# EAGLE library part WINC3400-MR210 (library atmel-smartconnect)
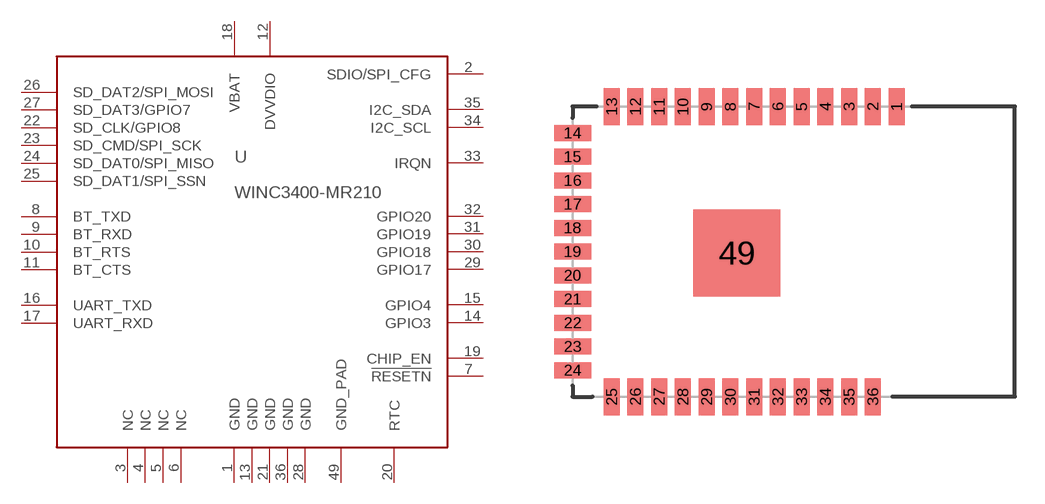
[diagram p2: symbol with the pads of WINC3400-MR210; footprint WINC3400-MR210]

Designator prefix -

## WINC3400-MR210  [WINC3400-MR210]
1  GND  pwr
2  SDIO/SPI_CFG  in
3  NC  nc
4  NC  nc
5  NC  nc
6  NC  nc
7  !RESETN  in
8  BT_TXD
9  BT_RXD
10  BT_RTS
11  BT_CTS
12  DVVDIO  pwr
13  GND  pwr
14  GPIO3
15  GPIO4
16  UART_TXD
17  UART_RXD
18  VBAT  pwr
19  CHIP_EN
20  RTC
21  GND  pwr
22  SD_CLK/GPIO8
23  SD_CMD/SPI_SCK
24  SD_DAT0/SPI_MISO
25  SD_DAT1/SPI_SSN
26  SD_DAT2/SPI_MOSI
27  SD_DAT3/GPIO7
28  GND  pwr
29  GPIO17
30  GPIO18
31  GPIO19
32  GPIO20
33  IRQN
34  I2C_SCL
35  I2C_SDA
36  GND  pwr
49  GND_PAD  pwr

## Footprint WINC3400-MR210 (pad centres in mm)
smd 0.813 x 1.88: 1 7.758,7.366; 2 6.554,7.366; 3 5.35,7.366; 4 4.146,7.366; 5 2.942,7.366; 6 1.738,7.366; 7 0.534,7.366; 8 -0.67,7.366; 9 -1.874,7.366; 10 -3.078,7.366; 11 -4.282,7.366; 12 -5.486,7.366; 13 -6.69,7.366; 25 -6.69,-7.366; 26 -5.486,-7.366; 27 -4.282,-7.366; 28 -3.078,-7.366; 29 -1.874,-7.366; 30 -0.67,-7.366; 31 0.534,-7.366; 32 1.738,-7.366; 33 2.942,-7.366; 34 4.146,-7.366; 35 5.35,-7.366; 36 6.554,-7.366
smd 1.88 x 0.813: 14 -8.674,6.02; 15 -8.674,4.816; 16 -8.674,3.612; 17 -8.674,2.408; 18 -8.674,1.204; 19 -8.674,0; 20 -8.674,-1.204; 21 -8.674,-2.408; 22 -8.674,-3.612; 23 -8.674,-4.816; 24 -8.674,-6.02
smd 4.4 x 4.4: 49 -0.346,-0.065